# Altium integrated library SMA-J-P-X-ST-MT1.IntLib: 1 symbol
Pins are listed as number, name and electrical type; pins without a type are passive.

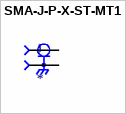
[diagram p0: symbol SMA-J-P-X-ST-MT1]

## SMA-J-P-X-ST-MT1
designator J
SMA Connector Jack, Female Socket 50Ohm Surface Mount, Through Hole Solder; MF: Samtec; MP: SMA-J-P-H-ST-MT1; Availability: Unavailable; SnapEDA_Link: https://www.snapeda.com/parts/SMA-J-P-H-ST-MT1/Samtec%20Inc./view-part/134501/?ref=snap; Toby_UK-Purchase-URL: https://snapeda.com/shop?store=Toby+UK&id=134501; Price: None; Package: None; Value: *
footprint SAMTEC_SMA-J-P-X-ST-MT1
pins: 1, 2, 3 2, 4 2, 5 2